# EAGLE library part AD9830 (library analogdevices-dds)
CMOS Complete DDS Clock Rate up to 50MHz
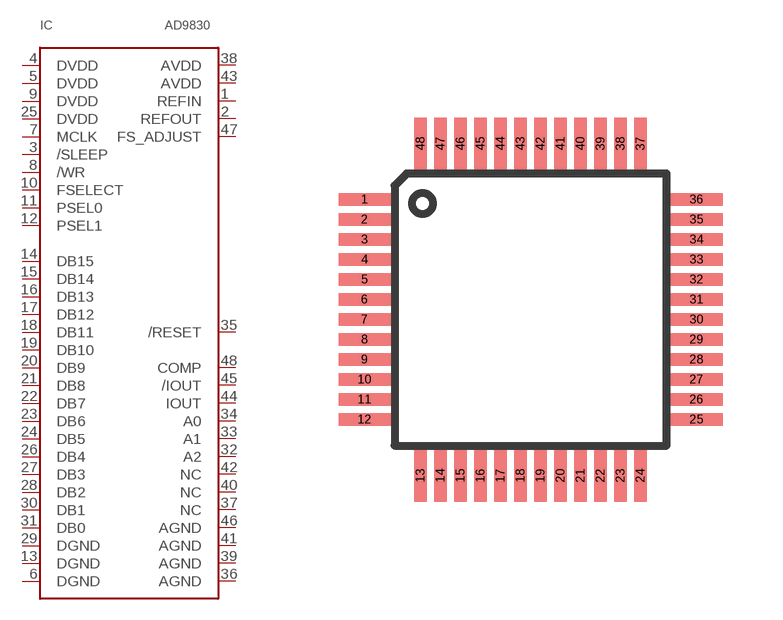
[diagram p6: symbol with the pads of TQFP48; footprint TQFP48]

Designator prefix IC

## AD9830  [TQFP48]
1  REFIN
2  REFOUT
3  /SLEEP
4  DVDD  pwr
5  DVDD  pwr
6  DGND  pwr
7  MCLK
8  /WR
9  DVDD  pwr
10  FSELECT
11  PSEL0
12  PSEL1
13  DGND  pwr
14  DB15
15  DB14
16  DB13
17  DB12
18  DB11
19  DB10
20  DB9
21  DB8
22  DB7
23  DB6
24  DB5
25  DVDD  pwr
26  DB4
27  DB3
28  DB2
29  DGND  pwr
30  DB1
31  DB0
32  A2
33  A1
34  A0
35  /RESET
36  AGND  pwr
37  NC  nc
38  AVDD  pwr
39  AGND  pwr
40  NC  nc
41  AGND  pwr
42  NC  nc
43  AVDD  pwr
44  IOUT
45  /IOUT
46  AGND  pwr
47  FS_ADJUST
48  COMP

## Footprint TQFP48 (pad centres in mm)
smd 1.3 x 0.32: 1 -4.15,2.75; 2 -4.15,2.25; 3 -4.15,1.75; 4 -4.15,1.25; 5 -4.15,0.75; 6 -4.15,0.25; 7 -4.15,-0.25; 8 -4.15,-0.75; 9 -4.15,-1.25; 10 -4.15,-1.75; 11 -4.15,-2.25; 12 -4.15,-2.75; 25 4.15,-2.75; 26 4.15,-2.25; 27 4.15,-1.75; 28 4.15,-1.25; 29 4.15,-0.75; 30 4.15,-0.25; 31 4.15,0.25; 32 4.15,0.75; 33 4.15,1.25; 34 4.15,1.75; 35 4.15,2.25; 36 4.15,2.75
smd 0.32 x 1.3: 13 -2.75,-4.15; 14 -2.25,-4.15; 15 -1.75,-4.15; 16 -1.25,-4.15; 17 -0.75,-4.15; 18 -0.25,-4.15; 19 0.25,-4.15; 20 0.75,-4.15; 21 1.25,-4.15; 22 1.75,-4.15; 23 2.25,-4.15; 24 2.75,-4.15; 37 2.75,4.15; 38 2.25,4.15; 39 1.75,4.15; 40 1.25,4.15; 41 0.75,4.15; 42 0.25,4.15; 43 -0.25,4.15; 44 -0.75,4.15; 45 -1.25,4.15; 46 -1.75,4.15; 47 -2.25,4.15; 48 -2.75,4.15